# Altium schematic symbol library custom.SchLib: 19 symbols
Pins are listed as number, name and electrical type; pins without a type are passive.

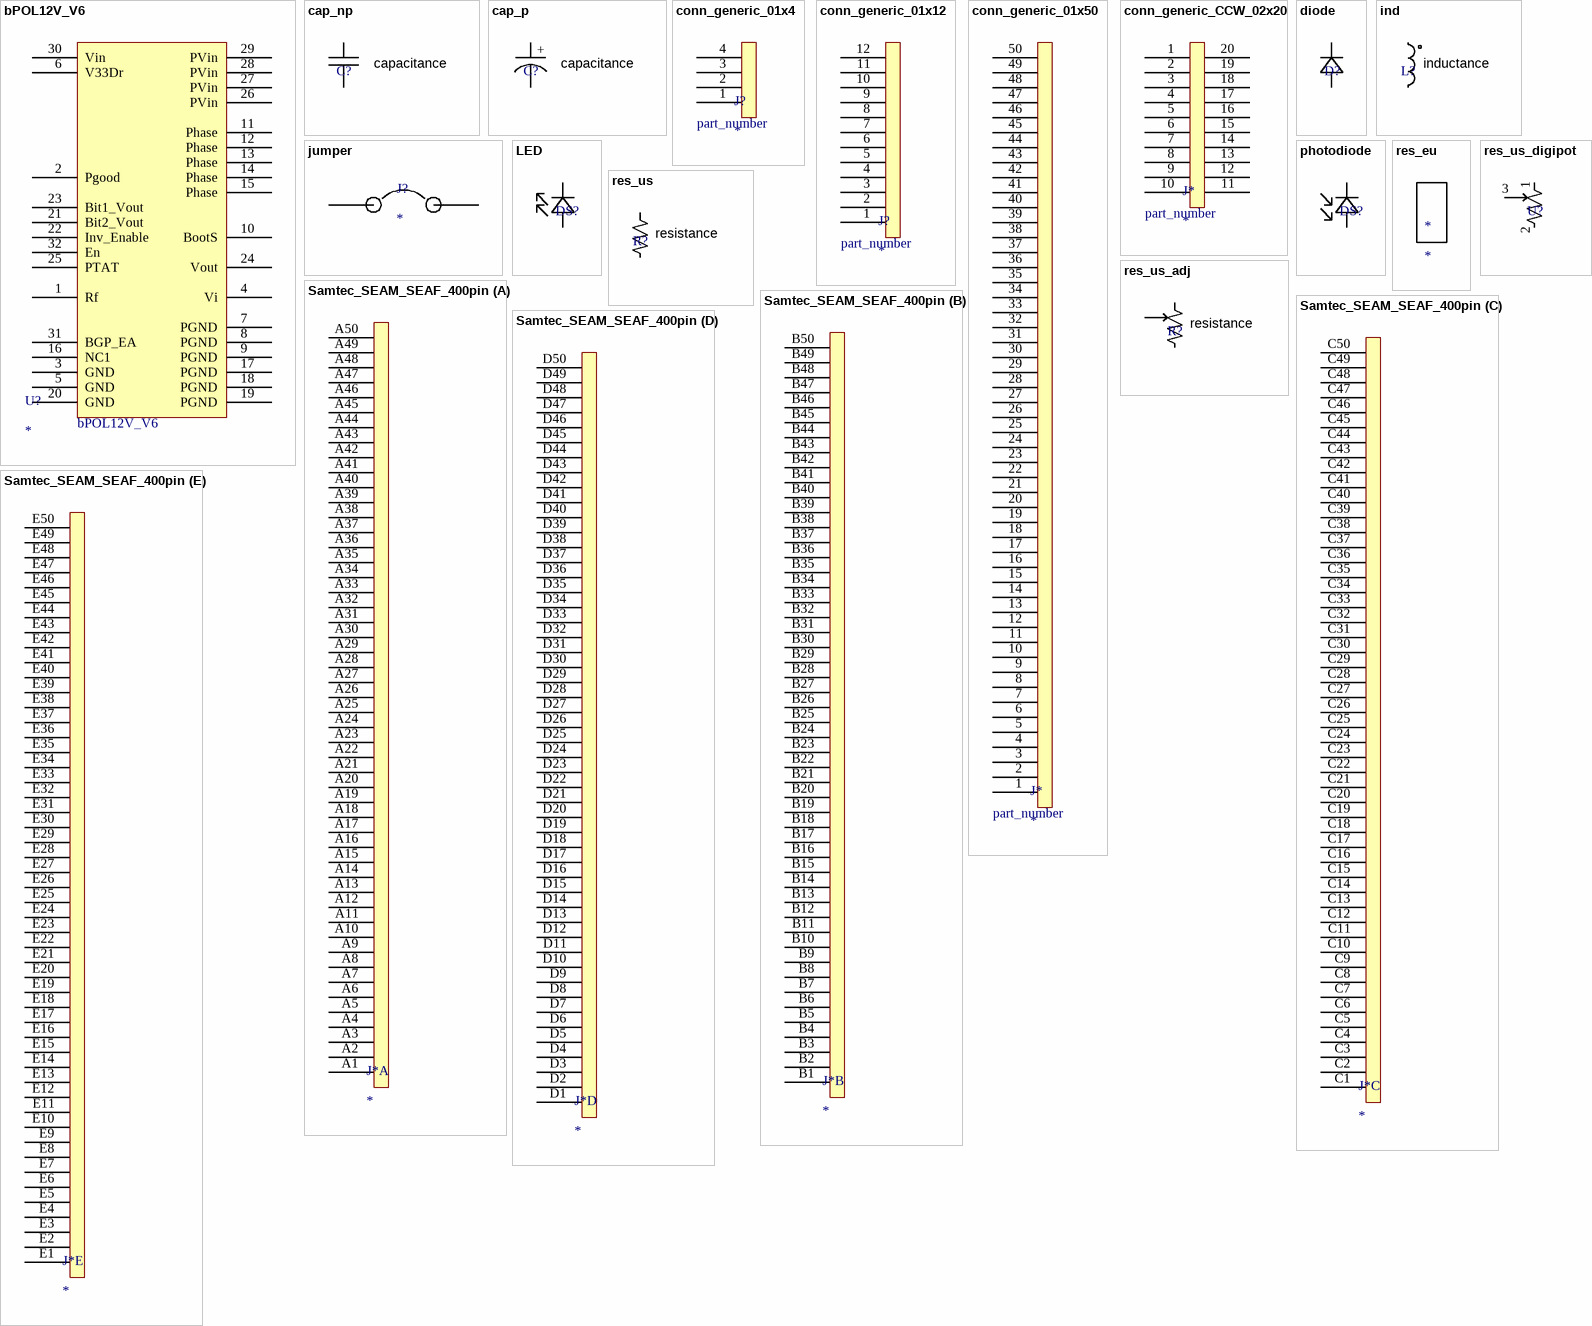
[diagram p0: symbols bPOL12V_V6 to Samtec_SEAM_SEAF_400pin]

## bPOL12V_V6
designator U?  manufacturer part number: bPOL12V_V6
manufacturer_part_number: part_number; manufacturer: manufacturer; multiplier: *
pins: 1 Rf, 2 Pgood, 3 GND, 4 Vi, 5 GND, 6 V33Dr, 7 PGND, 8 PGND, 9 PGND, 10 BootS, 11 Phase, 12 Phase, 13 Phase, 14 Phase, 15 Phase, 16 NC1, 17 PGND, 18 PGND, 19 PGND, 20 GND, 21 Bit2_Vout, 22 Inv_Enable, 23 Bit1_Vout, 24 Vout, 25 PTAT, 26 PVin, 27 PVin, 28 PVin, 29 PVin, 30 Vin, 31 BGP_EA, 32 En

## cap_np
designator C?
manufacturer_part_number: part_number; voltage: *; tolerance: *; manufacturer: manufacturer; capacitance: capacitance
pins: 1, 2

## cap_p
designator C?
manufacturer_part_number: part_number; voltage: *; tolerance: *; manufacturer: manufacturer; capacitance: capacitance
pins: 1, 2
text: +

## conn_generic_01x4
designator J?  manufacturer_part_number: part_number
manufacturer: manufacturer
pins: 1 3, 2 3, 3, 4 3

## conn_generic_01x12
designator J?  manufacturer_part_number: part_number
manufacturer: manufacturer
pins: 1 3, 2 3, 3, 4 3, 5 3, 6 3, 7 3, 8 3, 9 3, 10 3, 11 3, 12 3

## conn_generic_01x50
designator J*  manufacturer_part_number: part_number
manufacturer: manufacturer
pins: 1 3, 2 3, 3, 4 3, 5 3, 6 3, 7 3, 8 3, 9 3, 10 3, 11 3, 12 3, 13 3, 14 3, 15 3, 16 3, 17 3, 18 3, 19 3, 20 3, 21 3, 22 3, 23 3, 24 3, 25 3, 26 3, 27 3, 28 3, 29 3, 30 3, 31 3, 32 3, 33 3, 34 3, 35 3, 36 3, 37 3, 38 3, 39 3, 40 3, 41 3, 42 3, 43 3, 44 3, 45 3, 46 3, 47 3, 48 3, 49 2, 50 1

## conn_generic_CCW_02x20
designator J*  manufacturer_part_number: part_number
manufacturer: manufacturer
pins: 1, 2, 3, 4 3, 5 3, 6 3, 7 3, 8 3, 9 3, 10 3, 11 3, 12 3, 13 3, 14 3, 15 3, 16 3, 17 3, 18 3, 19 3, 20 3

## diode
designator D?
manufacturer_part_number: part_number; Voltage: *; Manufacturer Part Number: *; Manufacturer: manufacturer
pins: 1 A, 2 K

## ind
designator L?
manufacturer_part_number: part_number; tolerance: *; manufacturer: manufacturer; inductance: inductance
pins: 1, 2

## jumper
designator J?
manufacturer: manufacturer
pins: 1, 2

## LED
designator DS?
manufacturer_part_number: part_number; Manufacturer Part Number: *; Manufacturer: manufacturer
pins: 1 A, 2 K

## photodiode
designator DS?
manufacturer_part_number: part_number; Manufacturer Part Number: *; Manufacturer: manufacturer
pins: 1 A, 2 K

## res_eu
designator *
manufacturer_part_number: part_number; manufacturer: manufacturer

## res_us
designator R?
manufacturer_part_number: part_number; tolerance: *; manufacturer: manufacturer; resistance: resistance
pins: 1, 2

## res_us_adj
designator R?
manufacturer_part_number: part_number; tolerance: tolerance; manufacturer: manufacturer; resistance: resistance
pins: 1, 2, 3 out

## res_us_digipot
designator U?
manufacturer_part_number: part_number; Tolerance: *; Manufacturer Part Number: *; Manufacturer: manufacturer; Resistance: *
pins: 1, 2, 3 out

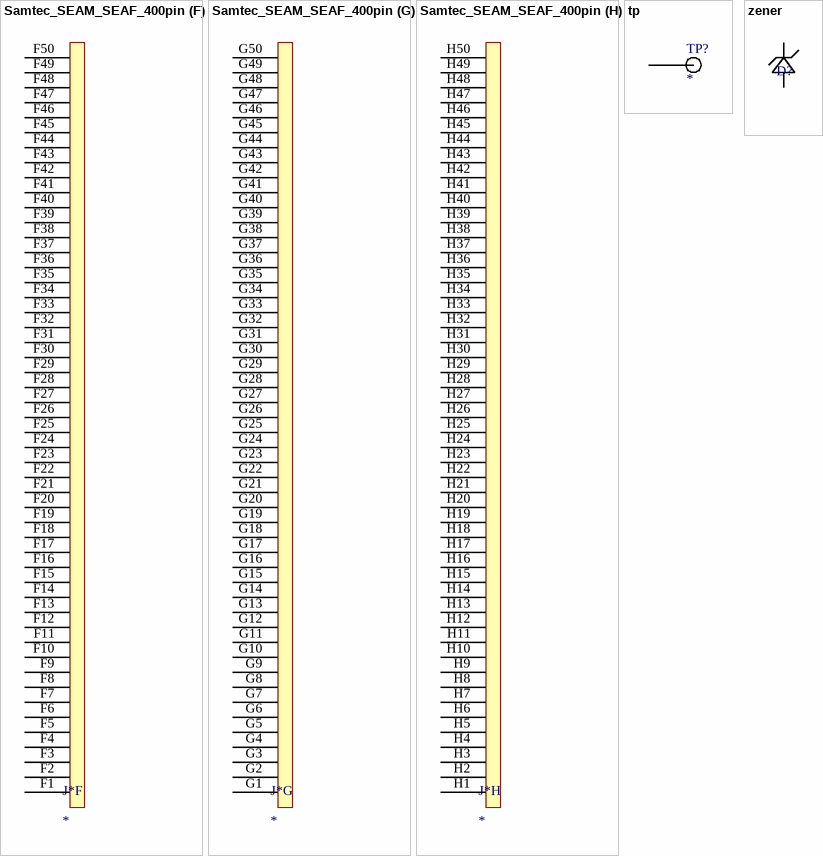
[diagram p1: symbols Samtec_SEAM_SEAF_400pin to zener]

## Samtec_SEAM_SEAF_400pin
designator J*
manufacturer: Samtec; manufacturer_part_number: part_number; manufacturer part number: *
part A pins: A1 pin, A2 pin, A3 pin, A4 pin, A5 pin, A6 pin, A7 pin, A8 pin, A9 pin, A10 pin, A11 pin, A12 pin, A13 pin, A14 pin, A15 pin, A16 pin, A17 pin, A18 pin, A19 pin, A20 pin, A21 pin, A22 pin, A23 pin, A24 pin, A25 pin, A26 pin, A27 pin, A28 pin, A29 pin, A30 pin, A31 pin, A32 pin, A33 pin, A34 pin, A35 pin, A36 pin, A37 pin, A38 pin, A39 pin, A40 pin, A41 pin, A42 pin, A43 pin, A44 pin, A45 pin, A46 pin, A47 pin, A48 pin, A49 pin, A50 pin
part B pins: B1 pin, B2 pin, B3 pin, B4 pin, B5 pin, B6 pin, B7 pin, B8 pin, B9 pin, B10 pin, B11 pin, B12 pin, B13 pin, B14 pin, B15 pin, B16 pin, B17 pin, B18 pin, B19 pin, B20 pin, B21 pin, B22 pin, B23 pin, B24 pin, B25 pin, B26 pin, B27 pin, B28 pin, B29 pin, B30 pin, B31 pin, B32 pin, B33 pin, B34 pin, B35 pin, B36 pin, B37 pin, B38 pin, B39 pin, B40 pin, B41 pin, B42 pin, B43 pin, B44 pin, B45 pin, B46 pin, B47 pin, B48 pin, B49 pin, B50 pin
part C pins: C1 pin, C2 pin, C3 pin, C4 pin, C5 pin, C6 pin, C7 pin, C8 pin, C9 pin, C10 pin, C11 pin, C12 pin, C13 pin, C14 pin, C15 pin, C16 pin, C17 pin, C18 pin, C19 pin, C20 pin, C21 pin, C22 pin, C23 pin, C24 pin, C25 pin, C26 pin, C27 pin, C28 pin, C29 pin, C30 pin, C31 pin, C32 pin, C33 pin, C34 pin, C35 pin, C36 pin, C37 pin, C38 pin, C39 pin, C40 pin, C41 pin, C42 pin, C43 pin, C44 pin, C45 pin, C46 pin, C47 pin, C48 pin, C49 pin, C50 pin
part D pins: D1 pin, D2 pin, D3 pin, D4 pin, D5 pin, D6 pin, D7 pin, D8 pin, D9 pin, D10 pin, D11 pin, D12 pin, D13 pin, D14 pin, D15 pin, D16 pin, D17 pin, D18 pin, D19 pin, D20 pin, D21 pin, D22 pin, D23 pin, D24 pin, D25 pin, D26 pin, D27 pin, D28 pin, D29 pin, D30 pin, D31 pin, D32 pin, D33 pin, D34 pin, D35 pin, D36 pin, D37 pin, D38 pin, D39 pin, D40 pin, D41 pin, D42 pin, D43 pin, D44 pin, D45 pin, D46 pin, D47 pin, D48 pin, D49 pin, D50 pin
part E pins: E1 pin, E2 pin, E3 pin, E4 pin, E5 pin, E6 pin, E7 pin, E8 pin, E9 pin, E10 pin, E11 pin, E12 pin, E13 pin, E14 pin, E15 pin, E16 pin, E17 pin, E18 pin, E19 pin, E20 pin, E21 pin, E22 pin, E23 pin, E24 pin, E25 pin, E26 pin, E27 pin, E28 pin, E29 pin, E30 pin, E31 pin, E32 pin, E33 pin, E34 pin, E35 pin, E36 pin, E37 pin, E38 pin, E39 pin, E40 pin, E41 pin, E42 pin, E43 pin, E44 pin, E45 pin, E46 pin, E47 pin, E48 pin, E49 pin, E50 pin
part F pins: F1 pin, F2 pin, F3 pin, F4 pin, F5 pin, F6 pin, F7 pin, F8 pin, F9 pin, F10 pin, F11 pin, F12 pin, F13 pin, F14 pin, F15 pin, F16 pin, F17 pin, F18 pin, F19 pin, F20 pin, F21 pin, F22 pin, F23 pin, F24 pin, F25 pin, F26 pin, F27 pin, F28 pin, F29 pin, F30 pin, F31 pin, F32 pin, F33 pin, F34 pin, F35 pin, F36 pin, F37 pin, F38 pin, F39 pin, F40 pin, F41 pin, F42 pin, F43 pin, F44 pin, F45 pin, F46 pin, F47 pin, F48 pin, F49 pin, F50 pin
part G pins: G1 pin, G2 pin, G3 pin, G4 pin, G5 pin, G6 pin, G7 pin, G8 pin, G9 pin, G10 pin, G11 pin, G12 pin, G13 pin, G14 pin, G15 pin, G16 pin, G17 pin, G18 pin, G19 pin, G20 pin, G21 pin, G22 pin, G23 pin, G24 pin, G25 pin, G26 pin, G27 pin, G28 pin, G29 pin, G30 pin, G31 pin, G32 pin, G33 pin, G34 pin, G35 pin, G36 pin, G37 pin, G38 pin, G39 pin, G40 pin, G41 pin, G42 pin, G43 pin, G44 pin, G45 pin, G46 pin, G47 pin, G48 pin, G49 pin, G50 pin
part H pins: H1 pin, H2 pin, H3 pin, H4 pin, H5 pin, H6 pin, H7 pin, H8 pin, H9 pin, H10 pin, H11 pin, H12 pin, H13 pin, H14 pin, H15 pin, H16 pin, H17 pin, H18 pin, H19 pin, H20 pin, H21 pin, H22 pin, H23 pin, H24 pin, H25 pin, H26 pin, H27 pin, H28 pin, H29 pin, H30 pin, H31 pin, H32 pin, H33 pin, H34 pin, H35 pin, H36 pin, H37 pin, H38 pin, H39 pin, H40 pin, H41 pin, H42 pin, H43 pin, H44 pin, H45 pin, H46 pin, H47 pin, H48 pin, H49 pin, H50 pin

## tp
designator TP?
pins: 1

## zener
designator D?
manufacturer_part_number: part_number; Voltage: *; Manufacturer Part Number: *; Manufacturer: manufacturer
pins: 1 A, 2 K